# EAGLE library part DIGISPARK (library raspiPowerControl)
Digispark http://digistump.com/wiki/digispark
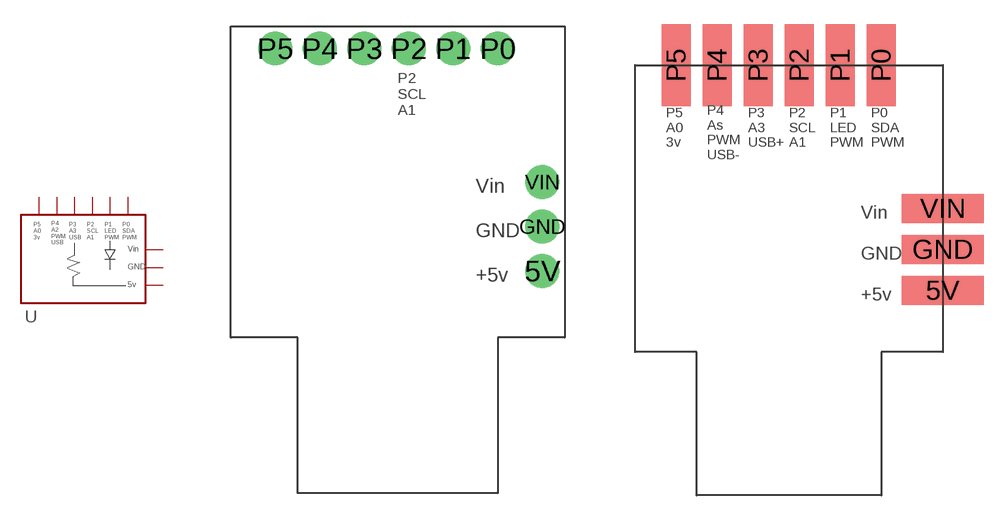
[diagram p0: symbol with the pads of DIGISPARK; footprints DIGISPARK, DIGISPARK-SMD]

Designator prefix -

## DIGISPARK  [DIGISPARK]
5V  5V  pwr
GND  GND  pwr
P0  P0
P1  P1
P2  P2
P3  P3
P4  P4
P5  P5
VIN  VIN  pwr

## DIGISPARKDIGISPARK-SMD  [DIGISPARK-SMD]
Pads as for DIGISPARK

## Footprint DIGISPARK (pad centres in mm)
DigiSpark
drill 1 pad 1.93: 5V 17.78,3.81; GND 17.78,6.35; P0 15.24,16.51; P1 12.7,16.51; P2 10.16,16.51; P3 7.62,16.51; P4 5.08,16.51; P5 2.54,16.51; VIN 17.78,8.89

## Footprint DIGISPARK-SMD (pad centres in mm)
DigiSpark with SMD Pads
smd 5.08 x 1.778: 5V 19.05,3.81; GND 19.05,6.35; VIN 19.05,8.89
smd 1.778 x 5.08: P0 15.24,17.78; P1 12.7,17.78; P2 10.16,17.78; P3 7.62,17.78; P4 5.08,17.78; P5 2.54,17.78